# EAGLE library part LM10CWM (library work)
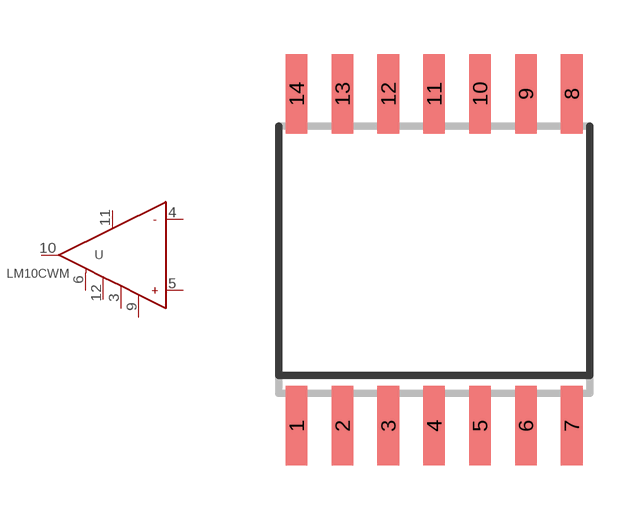
[diagram p54: symbol with the pads of SOIC14-W; footprint SOIC14-W]

Designator prefix U

## LM10CWM-SMD  [SOIC14-W]
3  RFO
4  -
5  +
6  V-
9  BALANCE
10  OUT
11  V+
12  RFB

## Footprint SOIC14-W (pad centres in mm)
smd 0.6 x 2.2: 1 -3.81,-4.6; 2 -2.54,-4.6; 3 -1.27,-4.6; 4 0,-4.6; 5 1.27,-4.6; 6 2.54,-4.6; 7 3.81,-4.6; 8 3.81,4.6; 9 2.54,4.6; 10 1.27,4.6; 11 0,4.6; 12 -1.27,4.6; 13 -2.54,4.6; 14 -3.81,4.6